# Altium schematic symbol library non_standard_res_cap_ind.SchLib: 6 symbols
Pins are listed as number, name and electrical type; pins without a type are passive.

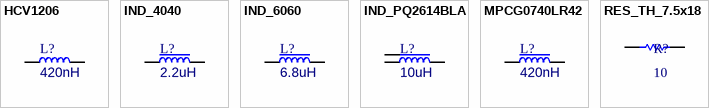
[diagram p0: symbols HCV1206 to RES_TH_7.5x18]

## HCV1206
designator L?, comment 420nH
420nH Unshielded Wirewound Inductor 16A 3.15mOhm Nonstandard; Manufacturer 1: Eaton - Electronics Division; Manufacturer Part Number 1: HCV1206-R42-R; Tolerance: ±10%; Rating: 16A; Supplier Part Number 1: 283-4584-1-ND; Value: 420nH; Supplier 1: Digi-Key
footprint IND_HCV1206
pins: 1, 2

## IND_4040
designator L?, comment 2.2uH
FIXED IND 2.2UH 3.83A 23 MOHM; Manufacturer 1: Wurth Electronics Inc.; Manufacturer Part Number 1: 74404043022A; Tolerance: 30%; Rating: 3.83A; Supplier Part Number 1: 732-10754-1-ND; Value: 2.2uH; Supplier 1: Digi-Key
footprint IND_4040
pins: 1, 2

## IND_6060
designator L?, comment 6.8uH
FIXED IND 6.8UH 3A 31 MOHM SMD; Manufacturer 1: Abracon LLC; Manufacturer Part Number 1: ASPI-6045S-6R8M-T; Tolerance: 20%; Rating: 3A; Supplier Part Number 1: 535-13046-1-ND; Value: 6.8uH; Supplier 1: Digi-Key
footprint IND_6060
pins: 1, 2

## IND_PQ2614BLA
designator L?, comment 10uH
FIXED IND 10UH 30A 1.6MOHM SMD; Manufacturer 1: Bourns Inc.; Manufacturer Part Number 1: PQ2614BLA-100K; Rating: 30A; Supplier Part Number 1: PQ2614BLA-100K-ND; Value: 10uH; Supplier 1: Digi-Key; Tolerance: Bourns Inc.
footprint IND_PQ2614BLA
pins: 1, 2, 3

## MPCG0740LR42
designator L?, comment 420nH
FIXED IND 420NH 22A 1.55 MOHM; Manufacturer 1: KEMET; Manufacturer Part Number 1: MPCG0740LR42; Tolerance: 20%; Rating: 22A; Supplier Part Number 1: 399-10958-1-ND; Value: 420nH; Supplier 1: Digi-Key
footprint MPCG0740LR42
pins: 1, 2

## RES_TH_7.5x18
designator R?, comment 10
RES 10 OHM 5W 5% AXIAL; Manufacturer 1: Bourns Inc.; Manufacturer Part Number 1: FW50A10R0JA; Supplier 1: Bourns Inc.; Supplier Part Number 1: FW50A10R0JACT-ND; Value: 10; Rating: 5W; Tolerance: 5%
simulation model RESISTOR (Resistor)
signal-integrity model Res
footprint RES_TH_7.5x18
pins: 1, 2